# Altium schematic symbol library Led.SchLib: 12 symbols
Pins are listed as number, name and electrical type; pins without a type are passive.

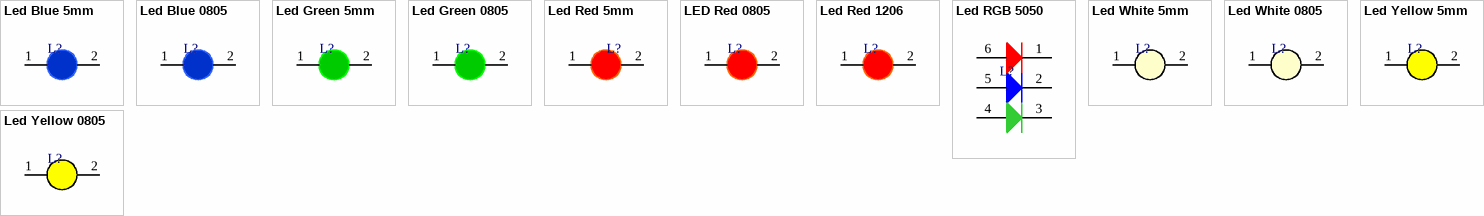
[diagram p0: symbols Led Blue 5mm to Led Yellow 0805]

## Led Blue 5mm
designator L?, comment 5mm  (value not drawn)
DIP
footprint LED 5mm
pins: 1 A, 2 K

## Led Blue 0805
designator L?, comment 0805  (value not drawn)
SMD
footprint LED 0805
pins: 1 A, 2 K

## Led Green 5mm
designator L?, comment 5mm  (value not drawn)
DIP
footprint LED 5mm
pins: 1 A, 2 K

## Led Green 0805
designator L?, comment 0805  (value not drawn)
SMD
footprint LED 0805
pins: 1 A, 2 K

## Led Red 5mm
designator L?, comment 5mm  (value not drawn)
DIP
footprint LED 5mm
pins: 1 A, 2 K

## LED Red 0805
designator L?, comment 0805  (value not drawn)
SMD
footprint LED 0805
pins: 1 A, 2 K

## Led Red 1206
designator L?, comment 1206  (value not drawn)
SMD
footprint LED 1206
pins: 1 A, 2 K

## Led RGB 5050
designator L?, comment RGB 5050  (value not drawn)
SMD
footprint LED RGB 5050
pins: 1, 2, 3, 4, 5, 6

## Led White 5mm
designator L?, comment 5mm  (value not drawn)
DIP
footprint LED 5mm
pins: 1 A, 2 K

## Led White 0805
designator L?, comment 0805  (value not drawn)
SMD
footprint LED 0805
pins: 1 A, 2 K

## Led Yellow 5mm
designator L?, comment 5mm  (value not drawn)
DIP
footprint LED 5mm
pins: 1 A, 2 K

## Led Yellow 0805
designator L?, comment 0805  (value not drawn)
SMD
footprint LED 0805
pins: 1 A, 2 K